# EAGLE library part WSEN-ISDS_25360303200011 (library WSEN)
WSEN-ISDS 6 Axis IMU (Inertial Measurement Unit) 3-Axis Acceleration Sensor and 3-axis Gyroscope Sensor Details see: www.we-online.com/en/components/products/WSEN-ISDS
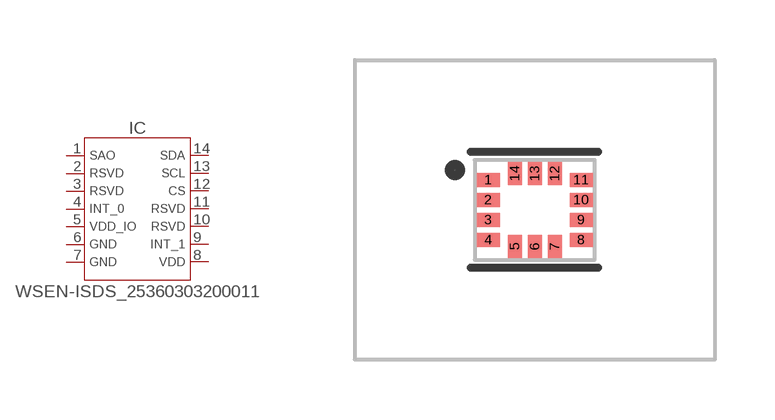
[diagram p11: symbol with the pads of WSEN-ISDS_2536030320001; footprint WSEN-ISDS_2536030320001]

Designator prefix IC

## WSEN-ISDS_25360303200011 (DATASHEET: https://www.we-online.com/redexpert/spec/25360303200011?ae; HEIGHT: 0.86mm; MANUFACTURER: Würth Elektronik; MOUNT: SMT; PART-NUMBER: 25360303200011; VALUE: 25360303200011)  [WSEN-ISDS_2536030320001]
1  SA0
2  RSVD  pas
3  RSVD  pas
4  INT_0  out
5  VDD_IO  pwr
6  GND  pwr
7  GND_2  pwr
8  VDD  pwr
9  INT_1  out
10  RSVD  pas
11  RSVD  pas
12  CS  in
13  SCL  in
14  SDA

## Footprint WSEN-ISDS_2536030320001 (pad centres in mm)
WSEN-ISDS 6-axis Inertial Sensor SMT, 14pins LXWXH=3mmX2.5mmX0.86MM
smd 0.575 x 0.35: 1 -1.163,0.75; 2 -1.163,0.25; 3 -1.163,-0.25; 4 -1.163,-0.75; 8 1.163,-0.75; 9 1.163,-0.25; 10 1.163,0.25; 11 1.163,0.75
smd 0.35 x 0.575: 5 -0.5,-0.912; 6 0,-0.912; 7 0.5,-0.912; 12 0.5,0.912; 13 0,0.912; 14 -0.5,0.912